# Altium schematic symbol library PIC32MX170F256D.SchLib: 1 symbol
Pins are listed as number, name and electrical type; pins without a type are passive.

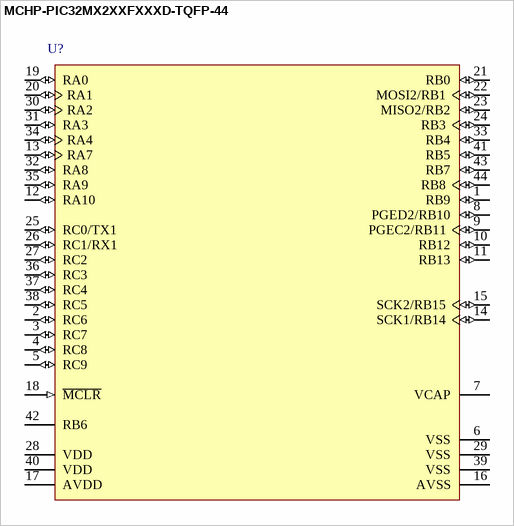
[diagram p0: symbol MCHP-PIC32MX2XXFXXXD-TQFP-44]

## MCHP-PIC32MX2XXFXXXD-TQFP-44
designator U?
footprint MCHP-TQFP-PT44_N (QFN, 44-Leads, Body 10x10mm, Pitch 0.8mm, IPC Medium Density)
pins: 1 RB9 (io), 2 RC6 (io), 3 RC7 (io), 4 RC8 (io), 5 RC9 (io), 6 VSS (power) "Ground reference for logic and I/O pins. This pin must be connected at all times.", 7 VCAP "CPU logic filter capacitor connection", 8 PGED2/RB10 (io), 9 PGEC2/RB11 (io), 10 RB12 (io) "USB internal transceiver supply. If the USB module is not used, this pin must be connected to VDD.", 11 RB13 (io), 12 RA10 (io), 13 RA7 (io), 14 SCK1/RB14 (io), 15 SCK2/RB15 (io), 16 AVSS (power) "Ground reference for analog modules", 17 AVDD (power) "Positive supply for analog modules. This pin must be connected at all times.", 18 ~{MCLR} (in) "Master Clear (Reset) input. This pin is an active-low Reset to the device.", 19 RA0 (io), 20 RA1 (io), 21 RB0 (io), 22 MOSI2/RB1 (io), 23 MISO2/RB2 (io), 24 RB3 (io), 25 RC0/TX1 (io), 26 RC1/RX1 (io), 27 RC2 (io), 28 VDD (power) "Positive supply for peripheral logic and I/O pins", 29 VSS (power) "Ground reference for logic and I/O pins. This pin must be connected at all times.", 30 RA2 (io), 31 RA3 (io), 32 RA8 (io), 33 RB4 (io), 34 RA4 (io), 35 RA9 (io), 36 RC3 (io), 37 RC4 (io), 38 RC5 (io), 39 VSS (power) "Ground reference for logic and I/O pins. This pin must be connected at all times.", 40 VDD (power) "Positive supply for peripheral logic and I/O pins", 41 RB5 (io), 42 RB6 (power) "USB bus power monitor", 43 RB7 (io), 44 RB8 (io)